# Altium schematic symbol library Attenuators.SchLib: 18 symbols
Pins are listed as number, name and electrical type; pins without a type are passive.

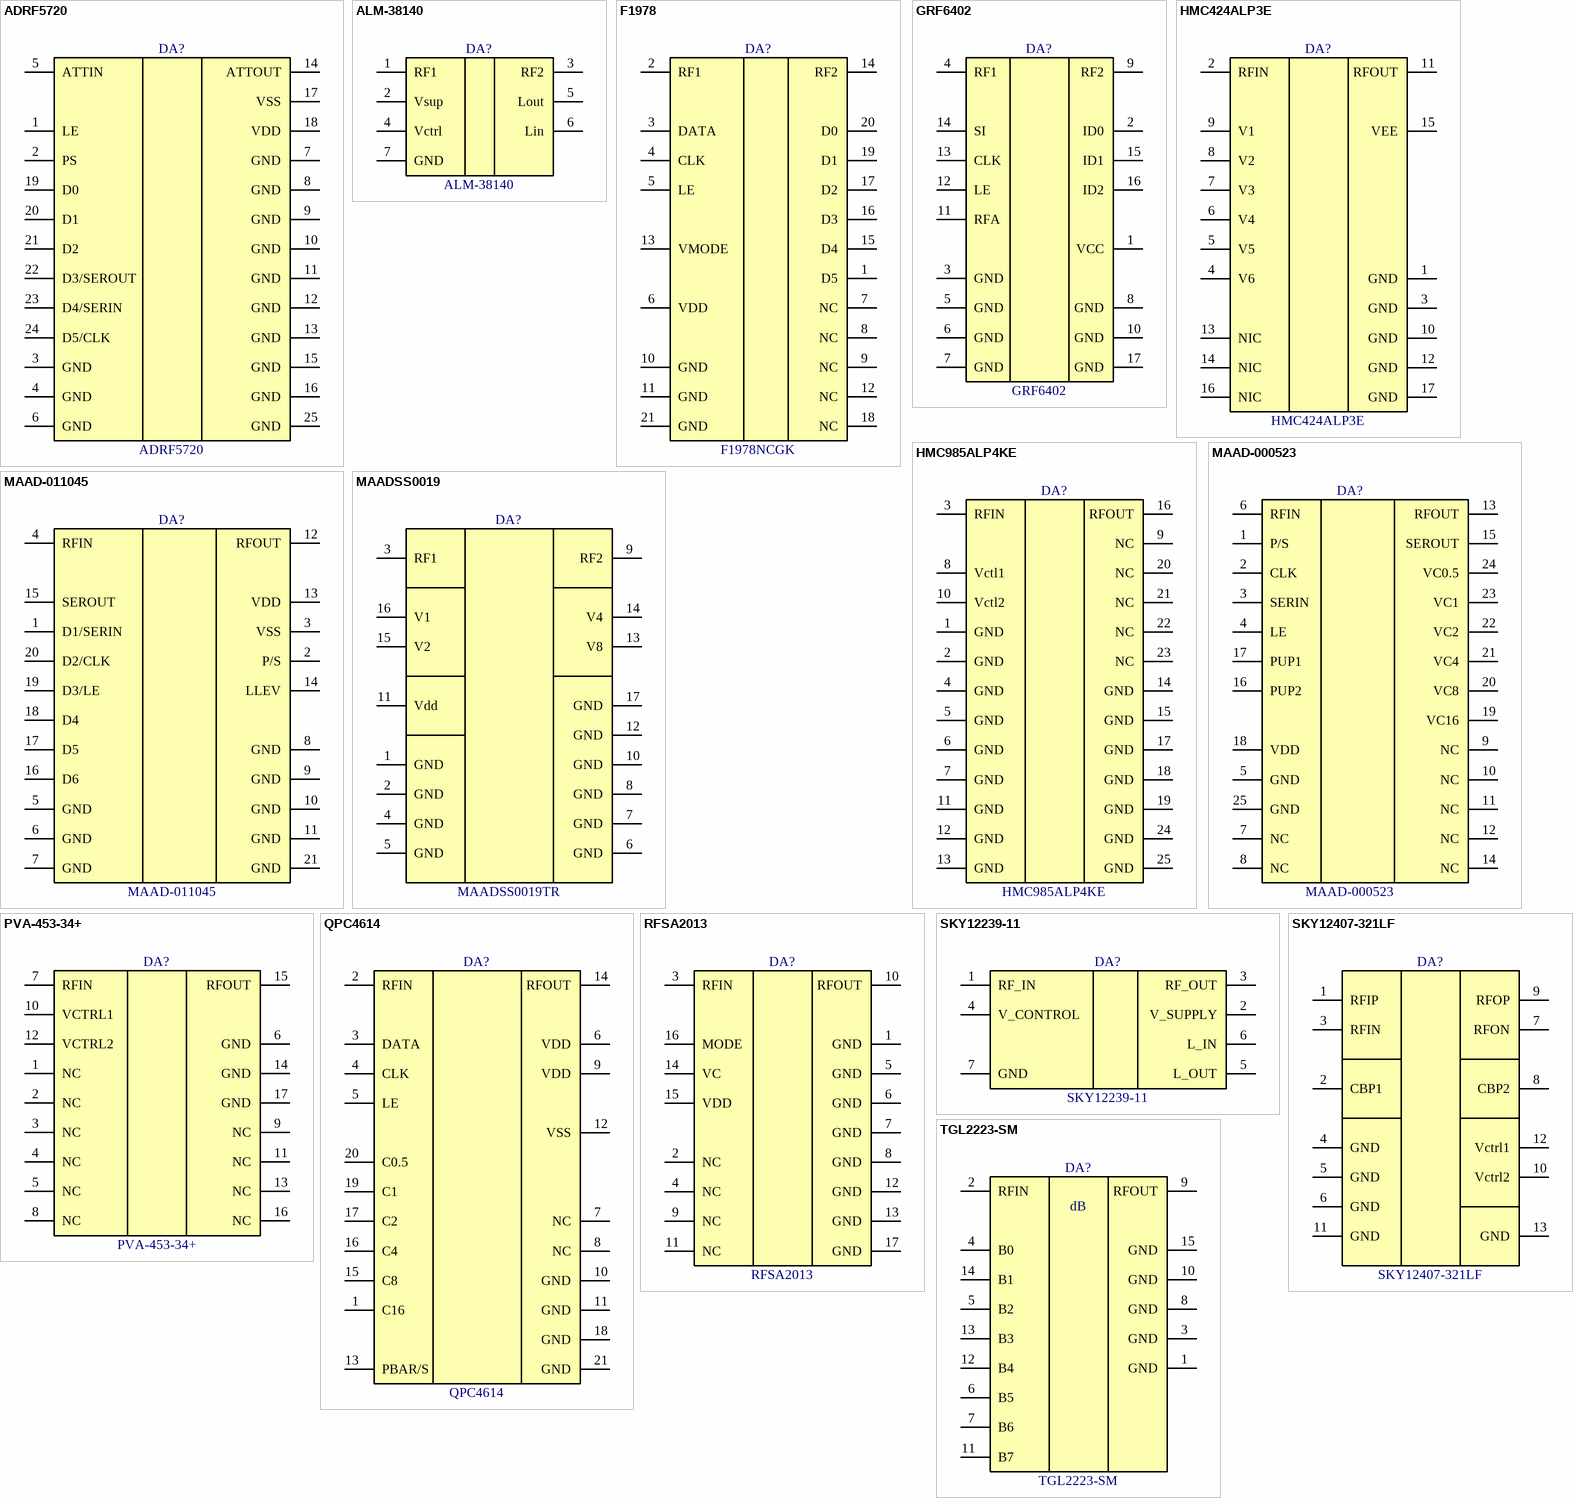
[diagram p0: symbols ADRF5720 to TGL2223-SM]

## ADRF5720
designator DA?
0.5 dB LSB, 6-Bit, Silicon Digital Attenuator, 9 kHz to 40 GHz; Manufacturer: Analog Devices; PartNumber: ADRF5720; ComponentLink1Description: Product Page; ComponentLink1URL: https://www.analog.com/en/products/adrf5720.html; ComponentLink2Description: DataSheet; ComponentLink2URL: https://www.analog.com/media/en/technical-documentation/data-sheets/adrf5720.pdf
footprint QFN50P400X400X85_HS-25N (QFN, 24-Leads, Body 4.00x4.00mm, Pitch 0.50mm, Thermal Pad 2.40x2.40mm, IPC Medium Density)
pins: 1 LE, 2 PS, 3 GND, 4 GND, 5 ATTIN, 6 GND, 7 GND, 8 GND, 9 GND, 10 GND, 11 GND, 12 GND, 13 GND, 14 ATTOUT, 15 GND, 16 GND, 17 VSS, 18 VDD, 19 D0, 20 D1, 21 D2, 22 D3/SEROUT, 23 D4/SERIN, 24 D5/CLK, 25 GND

## ALM-38140
designator DA?
50MHz – 4GHz PIN Diode Variable Attenuator Module; Manufacturer: Broadcom; PartNumber: ALM-38140; ComponentLink1Description: Product Page; ComponentLink1URL: https://www.broadcom.com/products/wireless/diodes/attenuator/alm-38140
footprint ALM-38140 (AVAGO ALM-38140)
pins: 1 RF1, 2 Vsup, 3 RF2, 4 Vctrl, 5 Lout, 6 Lin, 7 GND

## F1978
designator DA?, comment F1978NCGK
6-Bit, 75Ω Digital Step Attenuator 5MHz to 3GHz; Manufacturer: Renesas; PartNumber: F1978NCGK; ComponentLink1Description: Product Page; ComponentLink1URL: https://www.renesas.com/us/en/products/rf-products/rf-attenuators/f1978-6-bit-05db-75ohm-glitch-free-digital-step-attenuator; ComponentLink2Description: DataSheet; ComponentLink2URL: https://www.renesas.com/us/en/document/dst/f1978-datasheet-revision-o?r=366161
footprint QFN21P50_400X400X80L55X25T206N (Quad Flat No-Lead (QFN with Tab), 0.50 mm pitch; square, 5 pin X 5 pin, 4.00 mm L X 4.00 mm W X 0.80 mm H body)
pins: 1 D5, 2 RF1, 3 DATA, 4 CLK, 5 LE, 6 VDD, 7 NC, 8 NC, 9 NC, 10 GND, 11 GND, 12 NC, 13 VMODE, 14 RF2, 15 D4, 16 D3, 17 D2, 18 NC, 19 D1, 20 D0, 21 GND

## GRF6402
designator DA?
0.25dB Step DSA 50 MHz to 6 GHz; Manufacturer: Guerilla-RF; PartNumber: GRF6402
footprint GRF6402 (Guerrilla-RF 3.0 mm QFN-16)
pins: 1 VCC, 2 ID0, 3 GND, 4 RF1, 5 GND, 6 GND, 7 GND, 8 GND, 9 RF2, 10 GND, 11 RFA, 12 LE, 13 CLK, 14 SI, 15 ID1, 16 ID2, 17 GND

## HMC424ALP3E
designator DA?
0.1 GHz to 13.0 GHz, 0.5 dB LSB, 6-Bit, GaAs Digital Attenuator; Manufacturer: Analog Devices; PartNumber: HMC424ALP3E; ComponentLink1Description: Product Page; ComponentLink1URL: https://www.analog.com/en/products/HMC424ALP3E.html; ComponentLink2Description: DataSheet; ComponentLink2URL: https://www.analog.com/media/en/technical-documentation/data-sheets/hmc424alp3e.pdf
footprint QFN17P50_300X300X90L30X25T170N (Quad Flat No-Lead (QFN with Tab), 0.50 mm pitch; square, 4 pin X 4 pin, 3.00 mm L X 3.00 mm W X 0.90 mm H body)
pins: 1 GND, 2 RFIN, 3 GND, 4 V6, 5 V5, 6 V4, 7 V3, 8 V2, 9 V1, 10 GND, 11 RFOUT, 12 GND, 13 NIC, 14 NIC, 15 VEE, 16 NIC, 17 GND

## HMC985ALP4KE
designator DA?
GaAs MMIC VOLTAGE - VARIABLE ATTENUATOR, 10 - 40 GHz; Manufacturer: Analog Devices; ComponentLink1Description: Product Page; ComponentLink1URL: https://www.analog.com/en/products/hmc985alp4ke.html; PartNumber: HMC985ALP4KE; ComponentLink2Description: DataSheet; ComponentLink2URL: https://www.analog.com/media/en/technical-documentation/data-sheets/hmc985ALP4KE.pdf
footprint QFN25P50_400X400X100L40X24T260N (Quad Flat No-Lead (QFN with Tab), 0.50 mm pitch; square, 6 pin X 6 pin, 4.00 mm L X 4.00 mm W X 1.00 mm H body)
pins: 1 GND, 2 GND, 3 RFIN, 4 GND, 5 GND, 6 GND, 7 GND, 8 Vctl1, 9 NC, 10 Vctl2, 11 GND, 12 GND, 13 GND, 14 GND, 15 GND, 16 RFOUT, 17 GND, 18 GND, 19 GND, 20 NC, 21 NC, 22 NC, 23 NC, 24 GND, 25 GND

## MAAD-000523
designator DA?
6-Bit Digital Attenuator; Manufacturer: MACOM; PartNumber: MAAD-000523; ComponentLink1Description: Product Page; ComponentLink1URL: https://www.macom.com/products/product-detail/MAAD-000523; ComponentLink2Description: DataSheet; ComponentLink2URL: https://cdn.macom.com/datasheets/MAAD-000523.pdf
footprint QFN25P50_400X400X100L40X24T245N (Quad Flat No-Lead (QFN with Tab), 0.50 mm pitch; square, 6 pin X 6 pin, 4.00 mm L X 4.00 mm W X 1.00 mm H body)
pins: 1 P/S, 2 CLK, 3 SERIN, 4 LE, 5 GND, 6 RFIN, 7 NC, 8 NC, 9 NC, 10 NC, 11 NC, 12 NC, 13 RFOUT, 14 NC, 15 SEROUT, 16 PUP2, 17 PUP1, 18 VDD, 19 VC16, 20 VC8, 21 VC4, 22 VC2, 23 VC1, 24 VC0.5, 25 GND

## MAAD-011045
designator DA?
Digital Attenuator, 0.5 dB LSB, 6-Bit, Consistent Phase 31.5 dB, DC - 18 GHz; Manufacturer: MACOM; PartNumber: MAAD-011045; ComponentLink1Description: Product Page; ComponentLink1URL: https://www.macom.com/products/product-detail/MAAD-011045; ComponentLink2Description: DataSheet; ComponentLink2URL: https://cdn.macom.com/datasheets/MAAD-011045.pdf
footprint QFN21P40_300X300X95L38X20T160N (Quad Flat No-Lead (QFN with Tab), 0.40 mm pitch; square, 5 pin X 5 pin, 3.00 mm L X 3.00 mm W X 0.95 mm H body)
pins: 1 D1/SERIN, 2 P/S, 3 VSS, 4 RFIN, 5 GND, 6 GND, 7 GND, 8 GND, 9 GND, 10 GND, 11 GND, 12 RFOUT, 13 VDD, 14 LLEV, 15 SEROUT, 16 D6, 17 D5, 18 D4, 19 D3/LE, 20 D2/CLK, 21 GND

## MAADSS0019
designator DA?, comment MAADSS0019TR
Digital Attenuator, 15 dB, 4-Bit; Manufacturer: MACOM; ComponentLink1Description: Product Page; ComponentLink1URL: https://www.macom.com/products/product-detail/MAADSS0019; PartNumber: MAADSS0019TR; ComponentLink2Description: DataSheet; ComponentLink2URL: https://cdn.macom.com/datasheets/MAADSS0019.pdf
footprint PQFN50P300X300X100_HS-17N (PQFN, 16-Leads, Body 3,00x3,00mm, Pitch 0,50mm, Thermal Pad 1,43x1,43mm, IPC Medium Density)
pins: 1 GND, 2 GND, 3 RF1, 4 GND, 5 GND, 6 GND, 7 GND, 8 GND, 9 RF2, 10 GND, 11 Vdd, 12 GND, 13 V8, 14 V4, 15 V2, 16 V1, 17 GND

## PVA-453-34+
designator DA?
SMT Voltage Variable Attenuator, 10000 - 45000 MHz, 50Ω; Manufacturer: Mini-Circuits; PartNumber: PVA-453-34+; ComponentLink1Description: Product Page; ComponentLink1URL: https://www.minicircuits.com/WebStore/dashboard.html?model=PVA-453-34%2B; ComponentLink2Description: DataSheet; ComponentLink2URL: https://www.minicircuits.com/WebStore/dashboardPdf?model=PVA-453-34%2B
footprint JV2579 (Mini-Circuits CASE JV2579)
pins: 1 NC, 2 NC, 3 NC, 4 NC, 5 NC, 6 GND, 7 RFIN, 8 NC, 9 NC, 10 VCTRL1, 11 NC, 12 VCTRL2, 13 NC, 14 GND, 15 RFOUT, 16 NC, 17 GND

## QPC4614
designator DA?
75Ω 5 −2000MHz Digital Step Attenuator; Manufacturer: Qorvo; PartNumber: QPC4614; ComponentLink1Description: ProductPage; ComponentLink1URL: https://www.qorvo.com/products/p/QPC4614; ComponentLink2Description: DataSheet; ComponentLink2URL: https://www.qorvo.com/products/d/da008166
footprint QFN50P400X400X90_HS-21N (QFN, 20-Leads, Body 4,00x4,00mm, Pitch 0,50mm, Thermal Pad 2,15x2,15mm, IPC Medium Density)
pins: 1 C16, 2 RFIN, 3 DATA, 4 CLK, 5 LE, 6 VDD, 7 NC, 8 NC, 9 VDD, 10 GND, 11 GND, 12 VSS, 13 PBAR/S, 14 RFOUT, 15 C8, 16 C4, 17 C2, 18 GND, 19 C1, 20 C0.5, 21 GND

## RFSA2013
designator DA?
VOLTAGE CONTROLLED ATTENUATOR; Manufacturer: Qorvo; PartNumber: RFSA2013; ComponentLink1Description: Product Page; ComponentLink1URL: https://www.qorvo.com/products/p/RFSA2013; ComponentLink2Description: DataSheet; ComponentLink2URL: https://www.qorvo.com/products/d/da001051
footprint QFN17P50_300X300X90L40X34T170N (Quad Flat No-Lead (QFN with Tab), 0.50 mm pitch; square, 4 pin X 4 pin, 3.00 mm L X 3.00 mm W X 0.90 mm H body)
pins: 1 GND, 2 NC, 3 RFIN, 4 NC, 5 GND, 6 GND, 7 GND, 8 GND, 9 NC, 10 RFOUT, 11 NC, 12 GND, 13 GND, 14 VC, 15 VDD, 16 MODE, 17 GND

## SKY12239-11
designator DA?
High IIP3 10 MHz to 1.5 GHz Voltage-Controlled Variable Attenuator; Manufacturer: Skyworks; PartNumber: SKY12239-11; ComponentLink1Description: Product Page; ComponentLink1URL: https://www.skyworksinc.com/en/Products/Attenuators/SKY12239-11; ComponentLink2Description: DataSheet; ComponentLink2URL: https://www.skyworksinc.com/-/media/SkyWorks/Documents/Products/2601-2700/SKY12239_11_203556C.pdf
footprint SKY12239-11 (Skyworks SKY12239-11 3.8x3.8x1.1 mm)
pins: 1 RF_IN, 2 V_SUPPLY, 3 RF_OUT, 4 V_CONTROL, 5 L_OUT, 6 L_IN, 7 GND

## SKY12407-321LF
designator DA?
Differential Digital Attenuator; Manufacturer: Skyworks; PartNumber: SKY12407-321LF; ComponentLink1Description: Product Page; ComponentLink1URL: https://www.skyworksinc.com/en/Products/Attenuators/SKY12407-321LF; ComponentLink2Description: DataSheet; ComponentLink2URL: https://www.skyworksinc.com/-/media/SkyWorks/Documents/Products/401-500/200935F.pdf
footprint SKY12407-321LF
pins: 1 RFIP, 2 CBP1, 3 RFIN, 4 GND, 5 GND, 6 GND, 7 RFON, 8 CBP2, 9 RFOP, 10 Vctrl2, 11 GND, 12 Vctrl1, 13 GND

## TGL2223-SM
designator DA?
0.1-31 GHz 5-Bit Attenuator, 0.5 dB Steps, Packaged; Manufacturer: Qorvo; PartNumber: TGL2223-SM; ComponentLink1Description: Product Page; ComponentLink1URL: https://www.qorvo.com/products/p/TGL2223-SM; ComponentLink2Description: DataSheet; ComponentLink2URL: https://www.qorvo.com/products/d/da005010
footprint TGL2223-SM
pins: 1 GND, 2 RFIN, 3 GND, 4 B0, 5 B2, 6 B5, 7 B6, 8 GND, 9 RFOUT, 10 GND, 11 B7, 12 B4, 13 B3, 14 B1, 15 GND
text: dB

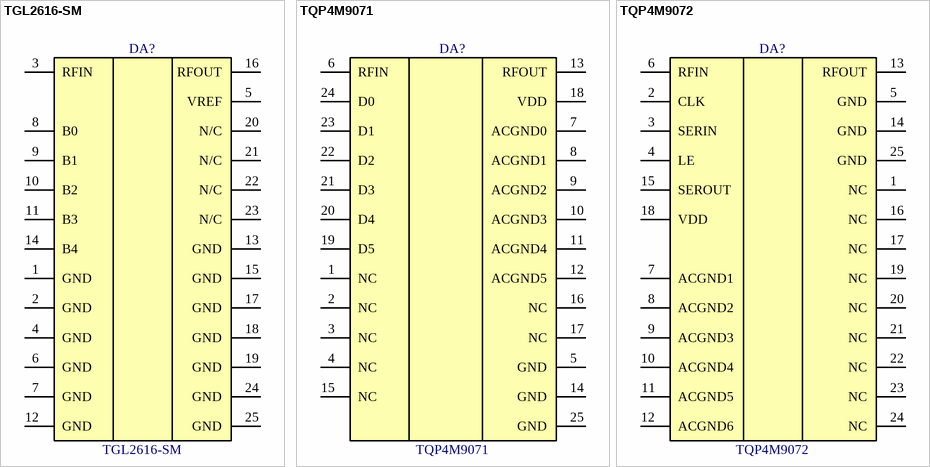
[diagram p1: symbols TGL2616-SM to TQP4M9072]

## TGL2616-SM
designator DA?
10-20 GHz 5-Bit Attenuator; Manufacturer: Qorvo; PartNumber: TGL2616-SM; ComponentLink1Description: Product Page; ComponentLink1URL: https://www.qorvo.com/products/p/TGL2616-SM; ComponentLink2Description: DataSheet; ComponentLink2URL: https://www.qorvo.com/products/d/da005023
footprint TGL2616-SM (Qorvo TGL2616-SM)
pins: 1 GND, 2 GND, 3 RFIN, 4 GND, 5 VREF, 6 GND, 7 GND, 8 B0, 9 B1, 10 B2, 11 B3, 12 GND, 13 GND, 14 B4, 15 GND, 16 RFOUT, 17 GND, 18 GND, 19 GND, 20 N/C, 21 N/C, 22 N/C, 23 N/C, 24 GND, 25 GND

## TQP4M9071
designator DA?
DC - 4 GHz Parallel Controlled, High Linearity Digital Step Attenuator, 6 Bit, 0.5 dB Steps; Manufacturer: Qorvo; PartNumber: TQP4M9071; ComponentLink1Description: Product Page; ComponentLink1URL: https://www.qorvo.com/products/p/TQP4M9071; ComponentLink2Description: DataSheet; ComponentLink2URL: https://www.qorvo.com/products/d/da005601
footprint QFN25P50_400X400X90L40X25T270N (Quad Flat No-Lead (QFN with Tab), 0.50 mm pitch; square, 6 pin X 6 pin, 4.00 mm L X 4.00 mm W X 0.90 mm H body)
pins: 1 NC, 2 NC, 3 NC, 4 NC, 5 GND, 6 RFIN, 7 ACGND0, 8 ACGND1, 9 ACGND2, 10 ACGND3, 11 ACGND4, 12 ACGND5, 13 RFOUT, 14 GND, 15 NC, 16 NC, 17 NC, 18 VDD, 19 D5, 20 D4, 21 D3, 22 D2, 23 D1, 24 D0, 25 GND

## TQP4M9072
designator DA?
DC - 4 GHz Serial Controlled, High Linearity Digital Step Attenuator, 6 Bit, 0.5 dB Steps; Manufacturer: Qorvo; PartNumber: TQP4M9072; ComponentLink1Description: Product Page; ComponentLink1URL: https://www.qorvo.com/products/p/TQP4M9072; ComponentLink2Description: DataSheet; ComponentLink2URL: https://www.qorvo.com/products/d/da005609
footprint QFN25P50_400X400X90L40X25T270N (Quad Flat No-Lead (QFN with Tab), 0.50 mm pitch; square, 6 pin X 6 pin, 4.00 mm L X 4.00 mm W X 0.90 mm H body)
pins: 1 NC, 2 CLK, 3 SERIN, 4 LE, 5 GND, 6 RFIN, 7 ACGND1, 8 ACGND2, 9 ACGND3, 10 ACGND4, 11 ACGND5, 12 ACGND6, 13 RFOUT, 14 GND, 15 SEROUT, 16 NC, 17 NC, 18 VDD, 19 NC, 20 NC, 21 NC, 22 NC, 23 NC, 24 NC, 25 GND